# EAGLE library part CH340N (library ch340)
CH340N CH340N <https://raw.githubusercontent.com/Thore-Krug/ch340/master/datasheets/ch340-datasheet-englisch-rev2.pdf> The CH340N is a SOP8 USB to UART adapter, it supports 5V and 3V3 IO Voltage.
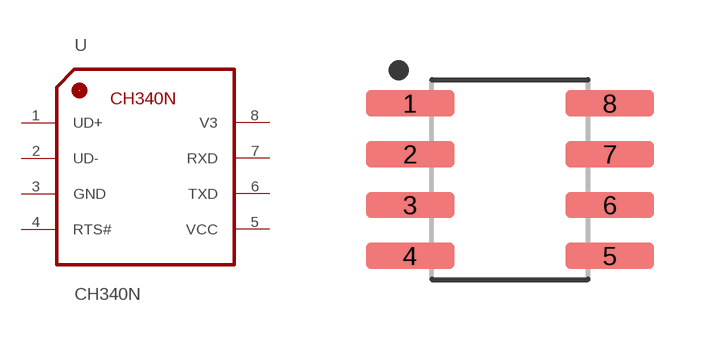
[diagram p0: symbol with the pads of SOIC127P600X180-8M; footprint SOIC127P600X180-8M]

Designator prefix U

## CH340N  [SOIC127P600X180-8M]
1  UD+
2  UD-
3  GND  pas
4  RTS#  out
5  VCC  pwr
6  TXD  in
7  RXD  out
8  V3  pwr

## Footprint SOIC127P600X180-8M (pad centres in mm)
8-SOIC, 1.27 mm pitch, 6.00 mm span, 5.00 X 3.90 X 1.80 mm body 8-pin SOIC package with 1.27 mm pitch, 6.00 mm span with body size 5.00 X 3.90 X 1.80 mm
smd 2.216 x 0.662: 1 -2.498,1.905; 2 -2.498,0.635; 3 -2.498,-0.635; 4 -2.498,-1.905; 5 2.498,-1.905; 6 2.498,-0.635; 7 2.498,0.635; 8 2.498,1.905